# EAGLE library part SI5351A_CLOCK_GEN (library Tristan+Robitaille's+Library)
Si5351A I2C-PROGRAMMABLE ANY-FREQUENCY CMOS CLOCK GENERATOR + VCXO Technical specifications: Frequency output range: 2.5kHz to 200MHz Supply voltage: 3.3V to 2.5V Current dRAW: 22mA Datasheet <http://www.silabs.com/Support%20Documents/TechnicalDocs/Si5351-B.pdf> Digi-Key part #: 336-2399-5-ND <http://www.digikey.com/product-detail/en/silicon-labs/SI5351A-B-GT/336-2399-5-ND/3679847> Mouser part #: 634-SI5351A-B-GT <http://ca.mouser.com/ProductDetail/Silicon-Labs/Si5351A-B-GT/?qs=sGAEpiMZZMvo8iywG0hSDWs06v8jDJjKxCv2r5wdINo%3d> Manufacturer part #: SI5351A-B-GT
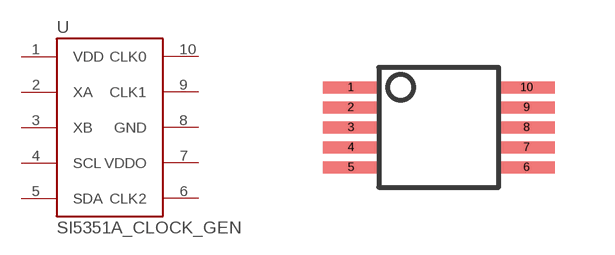
[diagram p13: symbol with the pads of MSOP-10; footprint MSOP-10]

Designator prefix U

## SI5351A_CLOCK_GEN  [MSOP-10]
1  VDD  pwr
2  XA  in
3  XB  in
4  SCL
5  SDA
6  CLK2  out
7  VDDO  pwr
8  GND  pwr
9  CLK1  out
10  CLK0  out

## Footprint MSOP-10 (pad centres in mm)
smd 1.4 x 0.3: 1 -2.2,1; 2 -2.2,0.5; 3 -2.2,0; 4 -2.2,-0.5; 5 -2.2,-1; 6 2.2,-1; 7 2.2,-0.5; 8 2.2,0; 9 2.2,0.5; 10 2.2,1